# Altium schematic symbol library Mosfet.SchLib: 4 symbols
Pins are listed as number, name and electrical type; pins without a type are passive.

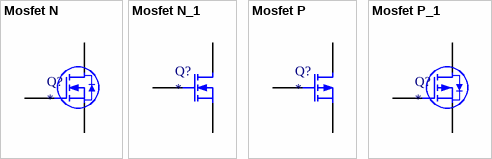
[diagram p0: symbols Mosfet N to Mosfet P_1]

## Mosfet N
designator Q?
footprint SOT-23
footprint SOT-89
pins: 1 G, 2 S, 3 D

## Mosfet N_1
designator Q?
pins: 1 D, 2 G, 3 S

## Mosfet P
designator Q?
pins: 1 D, 2 G, 3 S

## Mosfet P_1
designator Q?
footprint SOT-89
footprint SOT-23
pins: 1 G, 2 S, 3 D